# EAGLE library part VNH5019 (library Polulu)
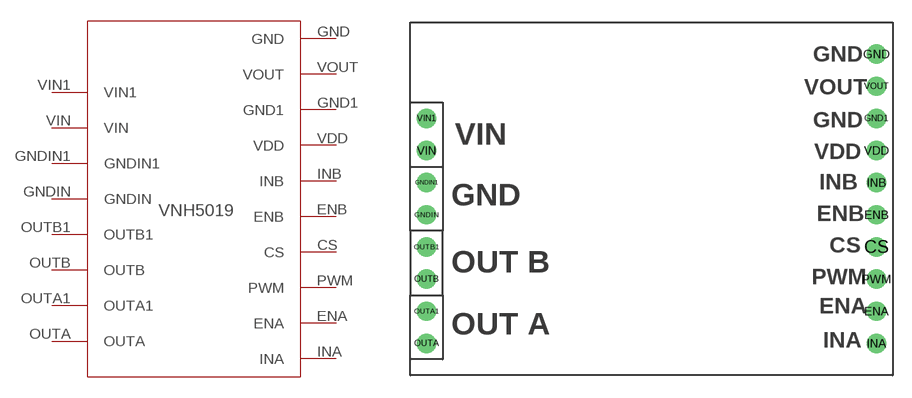
[diagram p0: symbol with the pads of VNH5019; footprint VNH5019]

Designator prefix -

## VNH5019  [VNH5019]
CS  CS
ENA  ENA
ENB  ENB
GND  GND
GND1  GND1
GNDIN  GNDIN
GNDIN1  GNDIN1
INA  INA
INB  INB
OUTA  OUTA
OUTA1  OUTA1
OUTB  OUTB
OUTB1  OUTB1
PWM  PWM
VDD  VDD
VIN  VIN
VIN1  VIN1
VOUT  VOUT

## Footprint VNH5019 (pad centres in mm)
drill 1.02: CS 36.83,10.16; ENA 36.83,5.08; ENB 36.83,12.7; GND 36.83,25.4; GND1 36.83,20.32; GNDIN 1.27,12.7; GNDIN1 1.27,15.24; INA 36.83,2.54; INB 36.83,15.24; OUTA 1.27,2.54; OUTA1 1.27,5.08; OUTB 1.27,7.62; OUTB1 1.27,10.16; PWM 36.83,7.62; VDD 36.83,17.78; VIN 1.27,17.78; VIN1 1.27,20.32; VOUT 36.83,22.86